# Altium footprint library WCAM-BREAKOUT-PCB-R03.PcbLib: 19 footprints (part 2 of 2)
Each footprint in its own frame and in the unit in brackets; x right, y up, seen from the top. Pads: shape width x height; smd on the part's side, far side on the other; paste and mask are expansions set on the pad; w line width, h text height; cw(c..) or ccw(c..) is an arc to the next point about the centre after c.
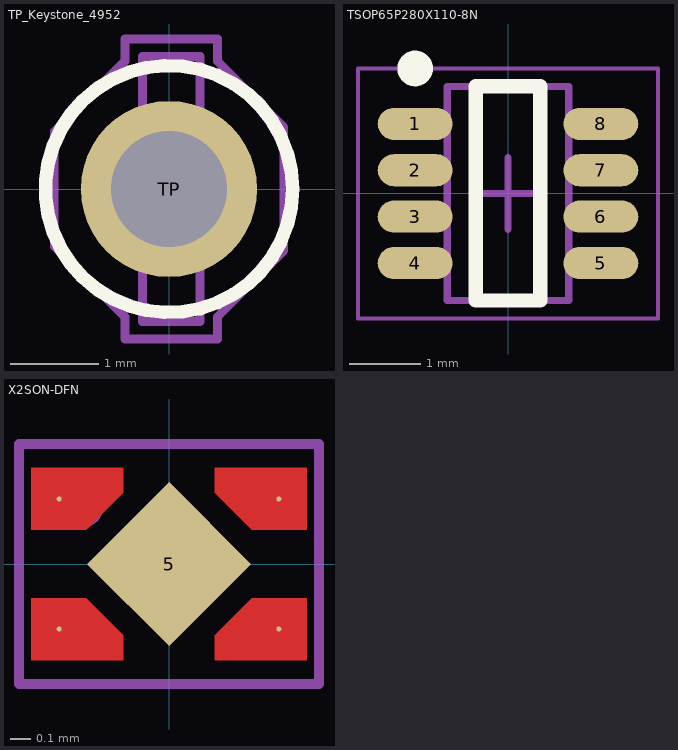
[diagram p1: the footprints below, top view; thin cyan lines are the x and y axes]

## TP_Keystone_4952 [mm] "Loop Type THM Test Point P/N 4952"
height 0.1
pads (1):
  round 2 hole 1.32: TP(0,0)
Top Overlay:
  circle w0.153: c0,0 r1.4
Top Courtyard:
  lines w0.05: -0.25,0 0.25,0 ; 0,-0.25 0,0.25
  lines w0.1: -1.3,-0.65 -1.148,-0.802 -0.5,-1.45 -0.5,-1.7 0.55,-1.7 0.55,-1.45 1.3,-0.7 1.3,0.7 0.55,1.45 0.55,1.7 -0.5,1.7 -0.5,1.45 -0.65,1.3 -1.3,0.65 -1.3,-0.65
Top Assembly:
  lines w0.1: -0.3,-1.5 0.35,-1.5 0.35,1.5 -0.3,1.5 -0.3,-1.5
  text ".Designator" at 0.457,-2.292 h0.5
3D body "4952--3DModel-STEP-630548.STEP": height 6.3, standoff -4.99, extent -0.298,-1.499 0.337,1.499

## TSOP65P280X110-8N [mm] "TSOP, 8-Leads, Body 2,90x1,60mm, Pitch 0,65mm, IPC Medium Density"
height 1.1
pads (8):
  oval 1.05x0.45 smd: 1(-1.3,0.975) 2(-1.3,0.325) 3(-1.3,-0.325) 4(-1.3,-0.975) 5(1.3,-0.975) 6(1.3,-0.325) 7(1.3,0.325) 8(1.3,0.975)
Top Overlay:
  circle w0.25: c-1.3,1.75 r0.125
  lines w0.2: -0.45,-1.5 -0.45,1.5 0.45,1.5 0.45,-1.5 -0.45,-1.5
Top 3D Body:
  lines w0.1: -0.85,-1.5 -0.85,1.5 0.85,1.5 0.85,-1.5 -0.85,-1.5
Top Courtyard:
  lines w0.05: -2.1,-1.75 -2.1,1.75 2.1,1.75 2.1,-1.75 -2.1,-1.75
  lines w0.1: -0.5,0 0.5,0 ; 0,-0.5 0,0.5
Top Assembly:
  lines w0.1: -0.85,-1.5 -0.85,1.5 0.85,1.5 0.85,-1.5 -0.85,-1.5
  text ".Designator" at 0.167,-2.499 h0.5
3D body "TSOP65P280X110-8N.step": height 1.1, standoff 0, extent -1.4,-1.5 1.4,1.5

## X2SON-DFN [mil] "X2SON small outline to lead"
height 15.75
pads (5):
  round 1 smd paste-99999 mask-99999: 1(-21.63,12.8) 2(-21.63,-12.8) 3(21.63,-12.8) 4(21.63,12.8)
  rect 22.83x22.83 smd rot 45 paste-99999 mask-99999: 5(0,0)
Top Layer:
  region: -27.14,18.9 -27.14,6.69 -16.32,6.69 -9.03,13.98 -9.03,18.9
  region: 27.14,18.9 27.14,6.69 16.32,6.69 9.03,13.98 9.03,18.9
  region: -27.14,-18.9 -27.14,-6.69 -16.32,-6.69 -9.03,-13.98 -9.03,-18.9
  region: 27.14,-18.9 27.14,-6.69 16.32,-6.69 9.03,-13.98 9.03,-18.9
Top Paste:
  region: -27.14,16.93 -27.14,8.66 -16.93,8.66 -11,14.59 -11,16.93
  region: 27.14,16.93 27.14,8.66 16.93,8.66 11,14.59 11,16.93
  region: -27.14,-16.93 -27.14,-8.66 -16.93,-8.66 -11,-14.59 -11,-16.93
  region: 27.14,-16.93 27.14,-8.66 16.93,-8.66 11,-14.59 11,-16.93
  region: 0,-12.53 -12.53,0 0,12.53 12.53,0
Top Solder:
  region: -16.93,8.66 -11,14.59 -11,16.93 -25.17,16.93 -25.17,8.66
  region: 16.93,8.66 11,14.59 11,16.93 25.17,16.93 25.17,8.66
  region: -16.93,-8.66 -11,-14.59 -11,-16.93 -25.17,-16.93 -25.17,-8.66
  region: 16.93,-8.66 11,-14.59 11,-16.93 25.17,-16.93 25.17,-8.66
  region: 0,-13.36 -13.36,0 0,13.36 13.36,0
Top Courtyard:
  lines w1.97: -9.84,0 9.84,0 ; 0,-9.84 0,9.84 ; -29.53,-23.62 29.53,-23.62 29.53,23.62 -29.53,23.62 -29.53,-23.62
Top Assembly:
  circle w5.91: c-17.72,11.81 r1.97
  lines w1.97: -29.53,-23.62 -29.53,23.62 29.53,23.62 29.53,-23.62 -29.53,-23.62
  text ".Designator" at 8.18,-45.2 h19.68
3D body "X2SON 1x1x0.4.stp": height 17.72, standoff 0, extent -19.73,-19.68 19.74,19.69